# EAGLE library part WAGO_2060-403_CONNECTOR (library 000_nl2)
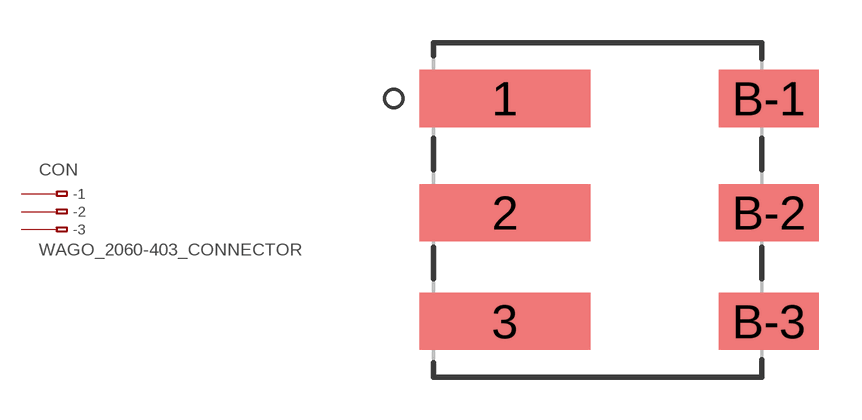
[diagram p26: symbol with the pads of WAGO_2060-403; footprint WAGO_2060-403]

Designator prefix CON

## WAGO_2060-403_CONNECTOR  [WAGO_2060-403]
1  -1  pas
2  -2  pas
3  -3  pas
B-1  B-1  pas
B-2  B-2  pas
B-3  B-3  pas

## Footprint WAGO_2060-403 (pad centres in mm)
smd 6 x 2: 1 -4,4.54; 2 -4,0.54; 3 -4,-3.27
smd 3.5 x 2: B-1 5.25,4.54; B-2 5.25,0.54; B-3 5.25,-3.27